# Altium integrated library Varistor.IntLib: 1 symbol
Pins are listed as number, name and electrical type; pins without a type are passive.

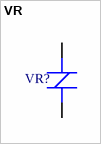
[diagram p0: symbol VR]

## VR
designator VR?  (value not drawn)
footprint Varistor
pins: 1, 2